# Altium footprint library TPS22.PcbLib: 1 footprints
Each footprint in its own frame and in the unit in brackets; x right, y up, seen from the top. Pads: shape width x height; smd on the part's side, far side on the other; paste and mask are expansions set on the pad; w line width, h text height; cw(c..) or ccw(c..) is an arc to the next point about the centre after c.
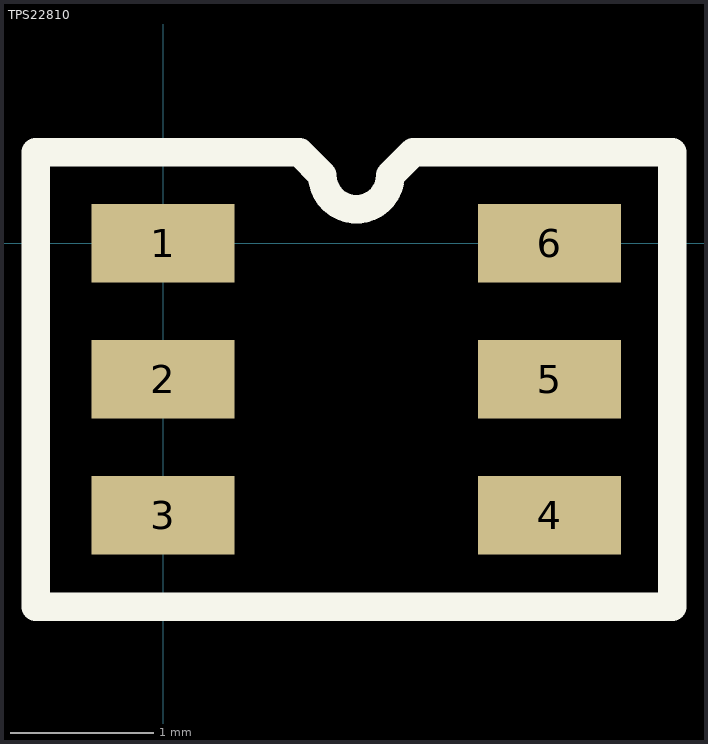
[diagram p0: the footprint, top view; thin cyan lines are the x and y axes]

## TPS22810 [mm] "DBV"
pads (6):
  rect 1x0.55 smd: 1(0,0) 2(0,-0.95) 3(0,-1.9) 4(2.7,-1.9) 5(2.7,-0.95) 6(2.7,0)
Top Overlay:
  lines w0.2: -0.889,-2.54 -0.889,0.635 0.953,0.635 1.112,0.475 ccw(c1.35,0.475) 1.587,0.475 1.747,0.635 3.556,0.635 3.556,-2.54 -0.889,-2.54
3D body: height 1.3, standoff 0, extent 0.254,-2.277 2.413,0.377
3D body: height 0.4, standoff 0, extent -0.483,-0.254 0.241,0.254
3D body: height 0.4, standoff 0, extent -0.483,-1.204 0.241,-0.696
3D body: height 0.4, standoff 0, extent -0.483,-2.154 0.241,-1.646
3D body: height 0.4, standoff 0, extent 2.459,-2.154 3.183,-1.646
3D body: height 0.4, standoff 0, extent 2.459,-0.254 3.183,0.254
3D body: height 0.4, standoff 0, extent 2.459,-1.204 3.183,-0.696